# EAGLE library part S70FL01GS (library S70FL01GS)
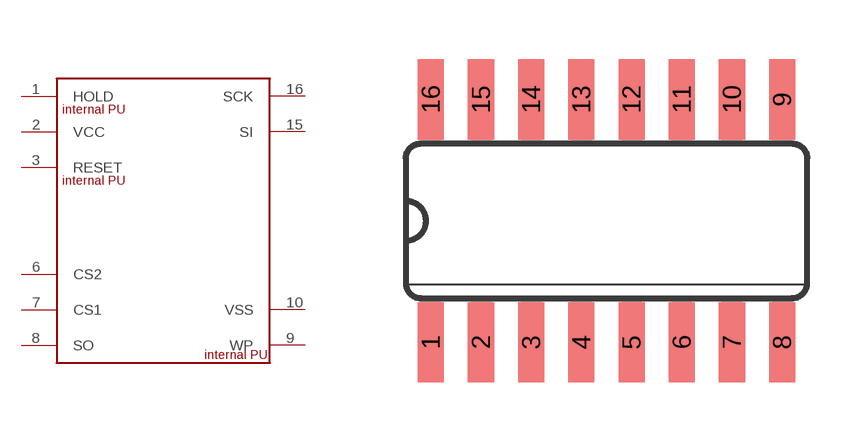
[diagram p0: symbol with the pads of SO16; footprint SO16]

Designator prefix -

## S70FL01GS  [SO16]
1  HOLD
2  VCC
3  RESET
6  CS2
7  CS1
8  SO
9  WP
10  VSS
15  SI
16  SCK

## Footprint SO16 (pad centres in mm)
Small Outline package 150 mil
smd 0.66 x 2.032: 1 -4.445,-3.073; 2 -3.175,-3.073; 3 -1.905,-3.073; 4 -0.635,-3.073; 5 0.635,-3.073; 6 1.905,-3.073; 7 3.175,-3.073; 8 4.445,-3.073; 9 4.445,3.073; 10 3.175,3.073; 11 1.905,3.073; 12 0.635,3.073; 13 -0.635,3.073; 14 -1.905,3.073; 15 -3.175,3.073; 16 -4.445,3.073